# Altium schematic symbol library SCH - MCU - INFINEON - INFINEON S6E1C11D0XXN2 QFN-64.SchLib: 1 symbol
Pins are listed as number, name and electrical type; pins without a type are passive.

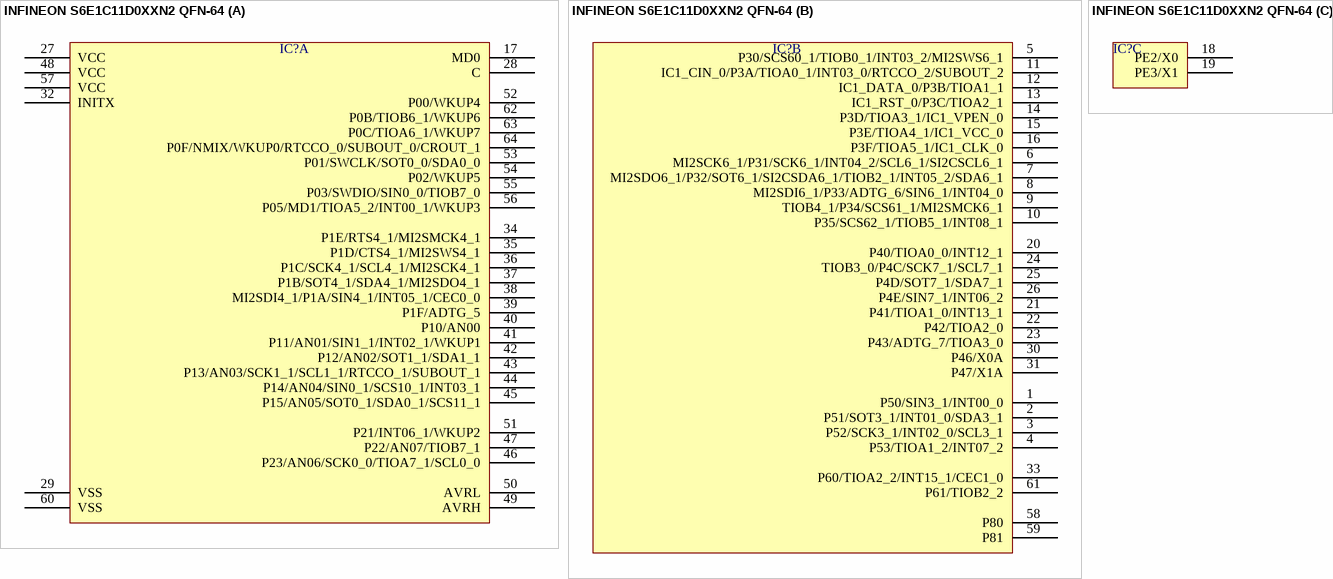
[diagram p0: symbol INFINEON S6E1C11D0XXN2 QFN-64]

## INFINEON S6E1C11D0XXN2 QFN-64
designator IC?  (value not drawn)
part A pins: 17 MD0, 27 VCC, 28 C, 29 VSS, 32 INITX, 34 P1E/RTS4_1/MI2SMCK4_1, 35 P1D/CTS4_1/MI2SWS4_1, 36 P1C/SCK4_1/SCL4_1/MI2SCK4_1, 37 P1B/SOT4_1/SDA4_1/MI2SDO4_1, 38 MI2SDI4_1/P1A/SIN4_1/INT05_1/CEC0_0, 39 P1F/ADTG_5, 40 P10/AN00, 41 P11/AN01/SIN1_1/INT02_1/WKUP1, 42 P12/AN02/SOT1_1/SDA1_1, 43 P13/AN03/SCK1_1/SCL1_1/RTCCO_1/SUBOUT_1, 44 P14/AN04/SIN0_1/SCS10_1/INT03_1, 45 P15/AN05/SOT0_1/SDA0_1/SCS11_1, 46 P23/AN06/SCK0_0/TIOA7_1/SCL0_0, 47 P22/AN07/TIOB7_1, 48 VCC, 49 AVRH, 50 AVRL, 51 P21/INT06_1/WKUP2, 52 P00/WKUP4, 53 P01/SWCLK/SOT0_0/SDA0_0, 54 P02/WKUP5, 55 P03/SWDIO/SIN0_0/TIOB7_0, 56 P05/MD1/TIOA5_2/INT00_1/WKUP3, 57 VCC, 60 VSS, 62 P0B/TIOB6_1/WKUP6, 63 P0C/TIOA6_1/WKUP7, 64 P0F/NMIX/WKUP0/RTCCO_0/SUBOUT_0/CROUT_1
part B pins: 1 P50/SIN3_1/INT00_0, 2 P51/SOT3_1/INT01_0/SDA3_1, 3 P52/SCK3_1/INT02_0/SCL3_1, 4 P53/TIOA1_2/INT07_2, 5 P30/SCS60_1/TIOB0_1/INT03_2/MI2SWS6_1, 6 MI2SCK6_1/P31/SCK6_1/INT04_2/SCL6_1/SI2CSCL6_1, 7 MI2SDO6_1/P32/SOT6_1/SI2CSDA6_1/TIOB2_1/INT05_2/SDA6_1, 8 MI2SDI6_1/P33/ADTG_6/SIN6_1/INT04_0, 9 TIOB4_1/P34/SCS61_1/MI2SMCK6_1, 10 P35/SCS62_1/TIOB5_1/INT08_1, 11 IC1_CIN_0/P3A/TIOA0_1/INT03_0/RTCCO_2/SUBOUT_2, 12 IC1_DATA_0/P3B/TIOA1_1, 13 IC1_RST_0/P3C/TIOA2_1, 14 P3D/TIOA3_1/IC1_VPEN_0, 15 P3E/TIOA4_1/IC1_VCC_0, 16 P3F/TIOA5_1/IC1_CLK_0, 20 P40/TIOA0_0/INT12_1, 21 P41/TIOA1_0/INT13_1, 22 P42/TIOA2_0, 23 P43/ADTG_7/TIOA3_0, 24 TIOB3_0/P4C/SCK7_1/SCL7_1, 25 P4D/SOT7_1/SDA7_1, 26 P4E/SIN7_1/INT06_2, 30 P46/X0A, 31 P47/X1A, 33 P60/TIOA2_2/INT15_1/CEC1_0, 58 P80, 59 P81, 61 P61/TIOB2_2
part C pins: 18 PE2/X0, 19 PE3/X1